# EAGLE library part IC_TTL_74_154 (library mylib_20130829)
IC_TTL_74_154 : 4-line to 16-line data SELECTOR/MULTIPLEXER Packages : _DIP : 2.54 x 24 x 300mil
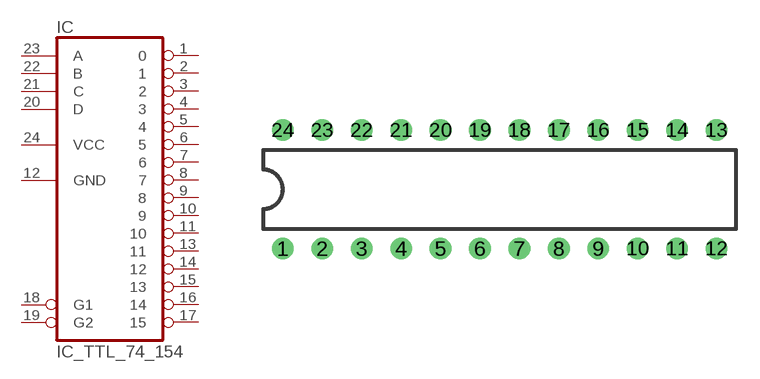
[diagram p48: symbol with the pads of IC_SOCKET_DIL_24_300MIL; footprint IC_SOCKET_DIL_24_300MIL]

Designator prefix IC

## IC_TTL_74_154_DIP  [IC_SOCKET_DIL_24_300MIL]
1  0  out
2  1  out
3  2  out
4  3  out
5  4  out
6  5  out
7  6  out
8  7  out
9  8  out
10  9  out
11  10  out
12  GND  pwr
13  11  out
14  12  out
15  13  out
16  14  out
17  15  out
18  G1  in
19  G2  in
20  D  in
21  C  in
22  B  in
23  A  in
24  VCC  pwr

## Footprint IC_SOCKET_DIL_24_300MIL (pad centres in mm)
drill 0.889: 1 -13.97,-3.81; 2 -11.43,-3.81; 3 -8.89,-3.81; 4 -6.35,-3.81; 5 -3.81,-3.81; 6 -1.27,-3.81; 7 1.27,-3.81; 8 3.81,-3.81; 9 6.35,-3.81; 10 8.89,-3.81; 11 11.43,-3.81; 12 13.97,-3.81; 13 13.97,3.81; 14 11.43,3.81; 15 8.89,3.81; 16 6.35,3.81; 17 3.81,3.81; 18 1.27,3.81; 19 -1.27,3.81; 20 -3.81,3.81; 21 -6.35,3.81; 22 -8.89,3.81; 23 -11.43,3.81; 24 -13.97,3.81